# Altium footprint library Smart_Podium.PcbLib: 28 footprints (part 1 of 2)
Each footprint in its own frame and in the unit in brackets; x right, y up, seen from the top. Pads: shape width x height; smd on the part's side, far side on the other; paste and mask are expansions set on the pad; w line width, h text height; cw(c..) or ccw(c..) is an arc to the next point about the centre after c.
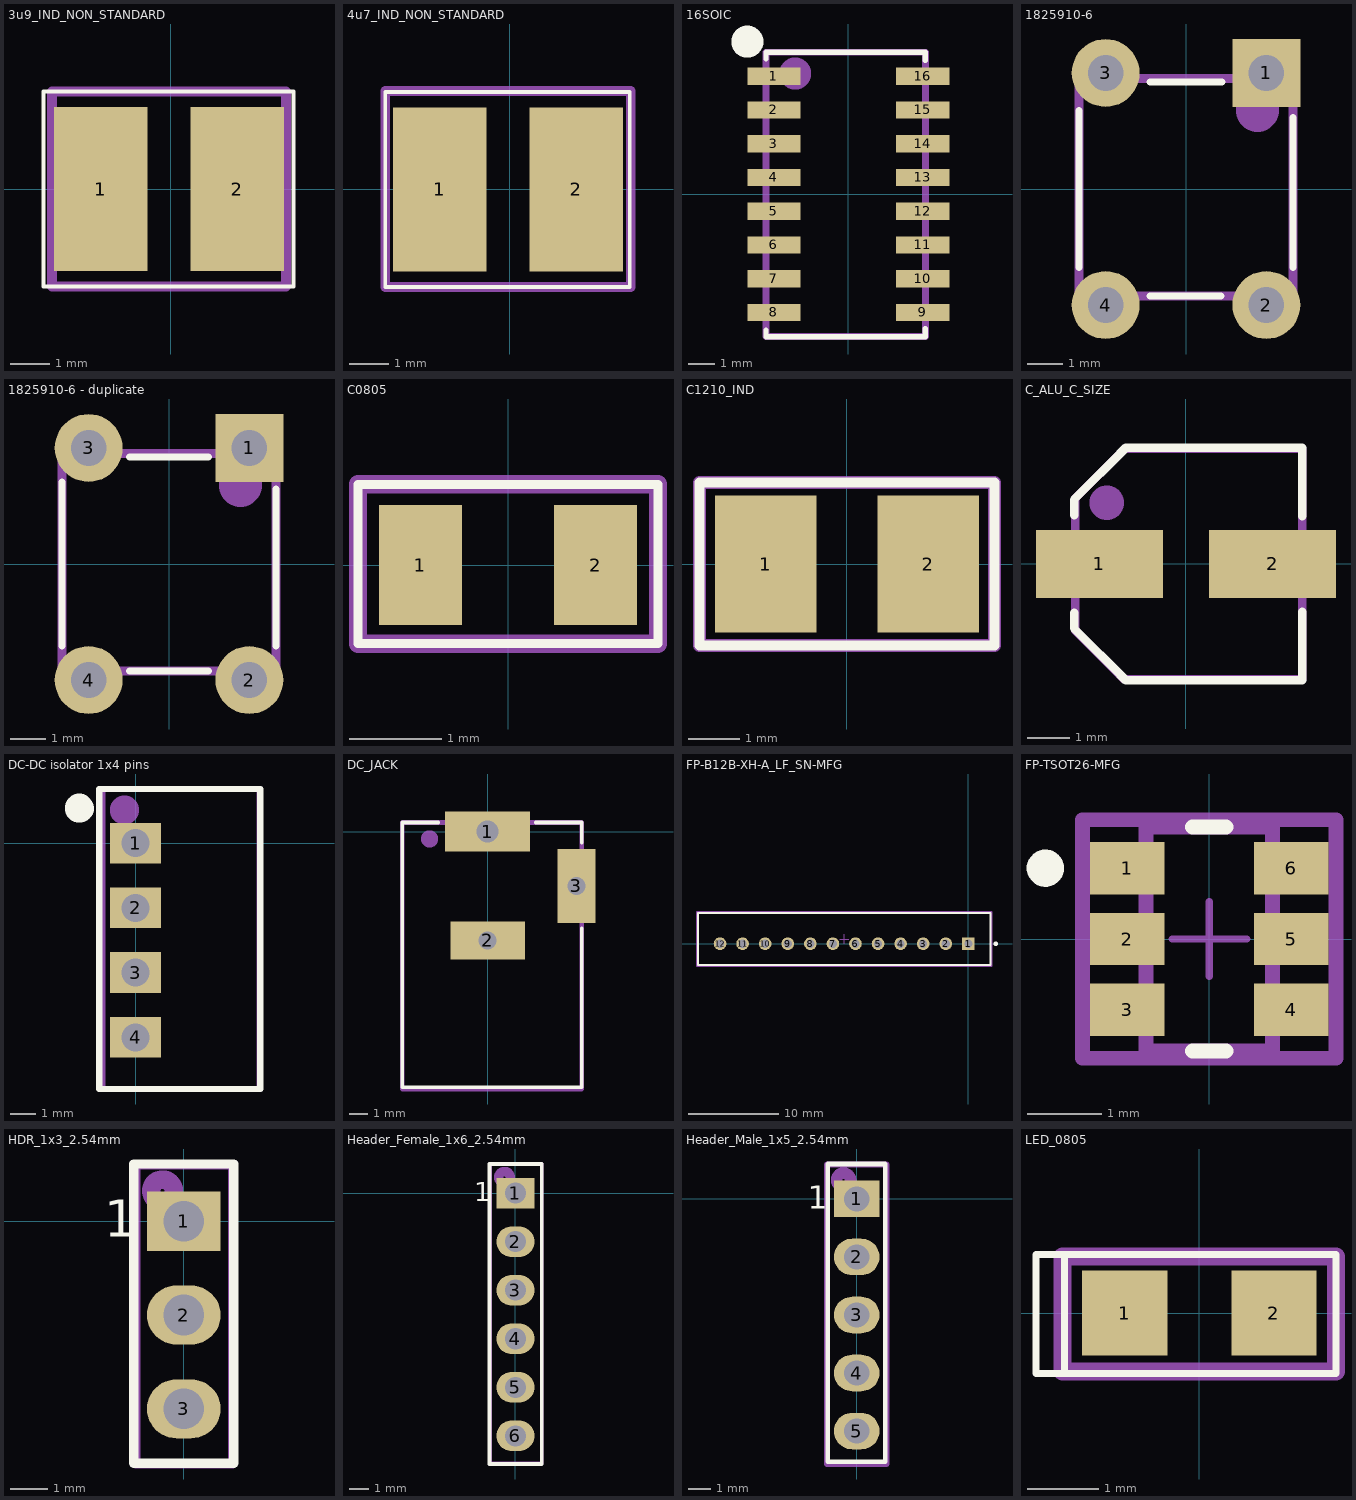
[diagram p0: the footprints below, top view; thin cyan lines are the x and y axes]

## 3u9_IND_NON_STANDARD [mm]
pads (2):
  rect 2.4x4.2 smd mask+0.05: 1(-1.8,0) 2(1.7,0)
Top Overlay:
  lines w0.1: -3.275,-2.5 -3.275,2.5 3.15,2.5 3.15,-2.5 -3.275,-2.5
Assembly Drawings:
  lines w0.254: -3.05,-2.5 -3.05,2.5 2.95,2.5 2.95,-2.5 -3.05,-2.5
  text ".Designator" at -1.6,-0.467 h1
3D body "4u7_inductor_SRR4828A.stp": height 2.76, standoff 0, extent -2.41,-2.35 2.41,2.45

## 4u7_IND_NON_STANDARD [mm]
pads (2):
  rect 2.4x4.2 smd mask+0.05: 1(-1.8,0) 2(1.7,0)
Top Overlay:
  lines w0.1: -3.2,-2.5 -3.2,2.5 3.075,2.5 3.075,-2.5 -3.2,-2.5
Assembly Drawings:
  lines w0.254: -3.2,-2.5 3.1,-2.5 3.1,2.525 -3.2,2.525 -3.2,-2.5
  text ".Designator" at -1.6,-0.467 h1
3D body "4u7_inductor_SRR4828A.stp": height 2.76, standoff 0, extent -2.41,-2.35 2.41,2.45

## 16SOIC [mm]
pads (16):
  rect 2x0.65 smd: 1(-2.8,4.445) 2(-2.8,3.175) 3(-2.8,1.905) 4(-2.8,0.635) 5(-2.8,-0.635) 6(-2.8,-1.905) 7(-2.8,-3.175) 8(-2.8,-4.445) 9(2.8,-4.445) 10(2.8,-3.175) 11(2.8,-1.905) 12(2.8,-0.635) 13(2.8,0.635) 14(2.8,1.905) 15(2.8,3.175) 16(2.8,4.445)
Top Overlay:
  circle w1: c-3.8,5.745 r0.1
  lines w0.2: 2.9,-5.055 2.9,-5.355 -3.1,-5.355 ; 2.9,5.045 2.9,5.345 -3.1,5.345 ; -3.1,-5.355 -3.1,-5.105 -3.1,-5.355 ; -3.1,5.345 -3.1,5.095 -3.1,5.345
Assembly Drawings:
  circle w1: c-2,4.545 r0.1
  lines w0.254: -3.1,-5.355 2.9,-5.355 2.9,5.345 -3.1,5.345 -3.1,-5.355
  text ".Designator" at -1.3,0.078 h1
3D body "SOIC16_3P9X9P9_ONS.step": height 1.76, standoff 0, extent -3.097,-4.908 2.897,4.998

## 1825910-6 [mm]
pads (4):
  rect 1.9x1.9 hole 1: 1(2.25,3.25)
  round 1.9 hole 1: 2(2.25,-3.25) 3(-2.25,3.25) 4(-2.25,-3.25)
Top Overlay:
  lines w0.2: -3,-2.2 -3,2.2 ; -1,-3 0.975,-3 ; -1,3 1,3 ; 3,-2.2 3,2
Assembly Drawings:
  circle w1: c2,2.2 r0.1
  lines w0.254: -3,-3 3,-3 3,3.1 -3,3.1 -3,-3
  text ".Designator" at -1.446,-0.638 h1.52
3D body "1825910-6-PushBTN.STEP": height 5.02, standoff -3.5, extent -2.995,-3.898 2.995,3.9

## 1825910-6 - duplicate [mm]
pads (4):
  rect 1.9x1.9 hole 1: 1(2.25,3.25)
  round 1.9 hole 1: 2(2.25,-3.25) 3(-2.25,3.25) 4(-2.25,-3.25)
Top Overlay:
  lines w0.2: -3,-2.3 -3,2.3 ; -1.1,-3 1.1,-3 ; -1.1,3 1.1,3 ; 3,-2.3 3,2.1
Mechanical 2:
  circle w1: c2,2.2 r0.1
  lines w0.254: -3,-3 3,-3 3,3.1 -3,3.1 -3,-3
  text ".Designator" at -1.446,-0.638 h1.52
3D body "1825910-6-PushBTN.STEP": height 5.02, standoff -3.5, extent -2.995,-3.898 2.995,3.9

## C0805 [mm]
pads (2):
  rect 0.9x1.3 smd mask+0.05: 1(-0.95,0) 2(0.95,0)
Top Overlay:
  lines w0.1: -1.625,-0.85 -1.625,0.875 1.625,0.875 1.625,-0.85 -1.625,-0.85
Assembly Drawings:
  lines w0.2: -1.625,-0.85 1.625,-0.85 1.625,0.875 -1.625,0.875 -1.625,-0.85
  text ".Designator" at -1.025,-0.325 h0.6
3D body "C0805_2.STEP": height 1.46, standoff 0.01, extent -1,-0.625 1,0.625

## C1210_IND [mm]
pads (2):
  rect 2x2.7 smd: 1(-1.6,0) 2(1.6,0)
Top Overlay:
  lines w0.2: -2.9,-1.6 2.9,-1.6 2.9,1.6 -2.9,1.6 -2.9,-1.6
Assembly Drawings:
  lines w0.254: -2.9,-1.6 2.9,-1.6 2.9,1.6 -2.9,1.6 -2.9,-1.6
  text ".Designator" at -1.6,-0.467 h1
3D body "2u2Inductor.step": height 2.69, standoff 0, extent -1.702,-1.346 1.702,1.346

## C_ALU_C_SIZE [mm]
pads (2):
  rect 3x1.6 smd: 1(-2.05,0) 2(2.05,0)
Top Overlay:
  lines w0.2: -2.65,-1.15 -2.65,-1.525 -2.344,-1.831 -1.731,-2.444 -1.425,-2.75 2.75,-2.75 2.75,-1.125 ; -2.65,1.15 -2.65,1.525 -2.344,1.831 -1.731,2.444 -1.425,2.75 2.75,2.75 2.75,1.125
Assembly Drawings:
  circle w0.5: c-1.875,1.45 r0.158
  lines w0.2: -2.625,-1.575 -2.625,-1.375 -2.625,1.15 -2.625,1.55 -1.45,2.725 2.75,2.725 2.75,-2.725 -1.475,-2.725 -2.625,-1.575
  text ".Designator" at -1.725,-0.367 h1
3D body "100uF Al Cap EEEFN1A101UR.STEP": height 5.81, standoff 0.01, extent -3.05,-2.675 2.95,2.625

## DC-DC isolator 1x4 pins [mm]
pads (4):
  rect 2x1.6 hole 1.1 mask+0.05: 1(0,0) 2(0,-2.54) 3(0,-5.08) 4(0,-7.62)
Top Overlay:
  lines w0.254: -1.425,-9.65 4.898,-9.65 4.898,2.125 -1.425,2.125 -1.425,-9.65
  lines w1: -2.191,1.445 ccw(c-2.2,1.375) -2.129,1.375
Assembly Drawings:
  circle w1: c-0.434,1.3 r0.071
  lines w0.254: -1.3,-9.65 4.875,-9.65 4.875,2.125 -1.3,2.125 -1.3,-9.65
  text ".Designator" at 0.304,-4.238 h1.52
3D body "MORNSUN_BxxxxS-1WR3 DC-DC Isolator.step": height 10.16, standoff -4.1, extent -1.125,-9.525 4.875,2.075

## DC_JACK [mm]
pads (3):
  rect 4.7x2.2 hole 1.2 square: 1(0,0)
  rect 4.1x2.1 hole 1 square: 2(0,-6)
  rect 2.1x4.1 hole 1 square: 3(4.9,-3)
Top Overlay:
  lines w0.2: -2.725,0.5 -4.7,0.5 -4.7,-14.1 5.2,-14.1 5.2,-5.325 ; 2.65,0.5 5.2,0.5 5.2,-0.625
Assembly Drawings:
  circle w0.5: c-3.2,-0.4 r0.224
  lines w0.254: -4.7,-14.2 5.2,-14.2 5.2,0.5 -4.7,0.5 -4.7,-14.2
  text ".Designator" at -2.8,-8.167 h1
3D body "DC Power Jack 5.5mm x 2.1mm.STEP": height 10.67, standoff -3.71, extent -4.67,-14.21 5.1,0.41

## FP-B12B-XH-A_LF_SN-MFG [mm]
pads (12):
  rect 1.4x1.4 hole 0.9 paste-1000 mask+0: 1(0,0)
  round 1.4 hole 0.9 paste-1000 mask+0: 2(-2.5,0) 3(-5,0) 4(-7.5,0) 5(-10,0) 6(-12.5,0) 7(-15,0) 8(-17.5,0) 9(-20,0) 10(-22.5,0) 11(-25,0) 12(-27.5,0)
Top Overlay:
  circle w0.25: c3.05,0 r0.125
  lines w0.2: -29.95,-2.35 -29.95,3.4 2.45,3.4 2.45,-2.35 -29.95,-2.35
Top Courtyard:
  lines w0.2: -30.05,-2.45 -30.05,3.5 2.55,3.5 2.55,-2.45 -30.05,-2.45
Top Component Center:
  lines w0.1: -14.25,0.525 -13.25,0.525 ; -13.75,0.025 -13.75,1.025
Assembly Drawings:
  lines w0.2: -30.05,-2.45 -30.05,3.5 2.55,3.5 2.55,-2.45 -30.05,-2.45
  text ".Designator" at -13.75,0.713 h1
3D body "Conn_JST_B12B-XH-A_LF_SN_eec.STEP": height 7, standoff -3.4, extent -29.95,-2.353 2.45,3.4

## FP-TSOT26-MFG [mm]
pads (6):
  rect 1x0.7 smd paste+0 mask+0: 1(-1.099,0.95) 2(-1.099,0) 3(-1.099,-0.95) 4(1.099,-0.95) 5(1.099,0) 6(1.099,0.95)
Top Overlay:
  circle w0.25: c-2.2,0.95 r0.125
  lines w0.2: -0.225,-1.5 0.225,-1.5 ; -0.225,1.5 0.225,1.5
Top Courtyard:
  lines w0.2: -1.699,-1.6 -1.699,1.6 1.699,1.6 1.699,-1.6 -1.699,-1.6
Top Component Center:
  lines w0.1: -0.5,0 0.5,0 ; 0,-0.5 0,0.5
Assembly Drawings:
  lines w0.2: -1.699,-1.6 -1.699,1.6 1.699,1.6 1.699,-1.6 -1.699,-1.6 ; -0.85,-1.5 0.85,-1.5 0.85,1.5 -0.85,1.5 -0.85,-1.5
  text ".Designator" at 0,0.188 h1
3D body "IC_Diodes_Inc_AP63205WU-7_eec.STEP": height 1, standoff 0, extent -1.4,-1.45 1.4,1.45

## HDR_1x3_2.54mm [mm]
pads (3):
  rect 2x1.6 hole 1.1 mask+0.06: 1(0,0)
  oval 2x1.6 hole 1.1 mask+0.06: 2(0,-2.54) 3(0,-5.08)
Top Overlay:
  lines w0.254: -1.35,-6.55 1.35,-6.55 1.35,1.55 -1.35,1.55 -1.35,-6.55
  text "1" at -2.15,-0.425 h1
Assembly Drawings:
  circle w0.5: c-0.575,0.825 r0.305
  lines w0.254: -1.3,-6.575 1.325,-6.575 1.325,1.525 -1.3,1.525 -1.3,-6.575
  text ".Designator" at 1.35,-4.04 h1.52
3D body "HDR 1X3.STEP": height 8.19, standoff -2.6, extent -1.213,-6.34 1.2,1.28

## Header_Female_1x6_2.54mm [mm]
pads (6):
  rect 2x1.6 hole 1.1 mask+0.05: 1(0,0)
  oval 2x1.6 hole 1.1 mask+0.05: 2(0,-2.54) 3(0,-5.08) 4(0,-7.62) 5(0,-10.16) 6(0,-12.7)
Top Overlay:
  lines w0.2: -1.35,-14.175 1.375,-14.175 1.375,1.525 -1.35,1.525 -1.35,-14.175
  text "1" at -2.15,-0.425 h1
Assembly Drawings:
  circle w0.5: c-0.575,0.825 r0.305
  lines w0.2: -1.325,-14.14 1.375,-14.14 1.375,1.525 -1.325,1.525 -1.325,-14.14
  text ".Designator" at 0.238,-6.636 h1.52
3D body "1x6 Female Pin Header 2.54mm.STEP": height 8.52, standoff -3.19, extent -1.34,-14.114 1.2,1.634

## Header_Male_1x5_2.54mm [mm]
pads (5):
  rect 2x1.6 hole 1.1 mask+0.05: 1(0,0)
  oval 2x1.6 hole 1.1 mask+0.05: 2(0,-2.54) 3(0,-5.08) 4(0,-7.62) 5(0,-10.16)
Top Overlay:
  lines w0.2: -1.275,-11.5 -1.275,1.525 1.25,1.525 1.25,-11.5 -1.275,-11.5
  text "1" at -2.15,-0.425 h1
Assembly Drawings:
  circle w0.5: c-0.575,0.825 r0.305
  lines w0.254: -1.3,-11.6 -1.3,1.5 1.3,1.5 1.3,-11.6 -1.3,-11.6
  text ".Designator" at 0.238,-6.636 h1.52
3D body "Male Header 5X1 2.54mm.STEP": height 15.85, standoff -3.24, extent -1.2,-11.43 1.2,1.27

## LED_0805 [mm]
pads (2):
  rect 1.2x1.2 smd mask+0.05: 1(-1.05,0) 2(1.05,0)
Top Overlay:
  lines w0.1: -1.9,-0.8 -1.9,0.8 ; -2.3,-0.85 -2.3,0.825 1.925,0.825 1.925,-0.85 -2.3,-0.85
Assembly Drawings:
  lines w0.254: -1.925,-0.825 1.925,-0.825 1.925,0.8 -1.925,0.8 -1.925,-0.825
  text ".Designator" at -0.912,-0.229 h1
3D body "SMD_0805LED_YEL.STEP": height 1.1, standoff 0, extent -1.01,-0.625 1.01,0.625